# EAGLE library part XR-88C684J68 (library exar)
QUAD UART
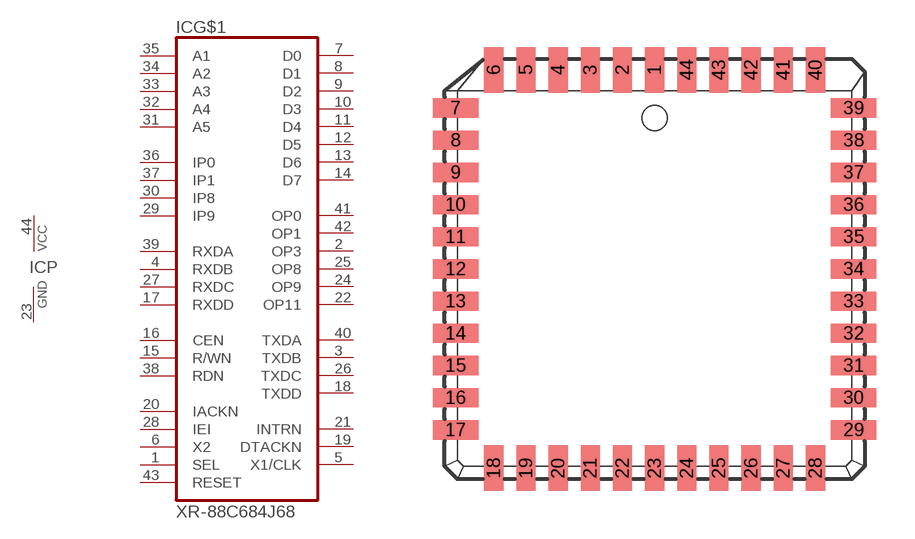
[diagram p81: symbol with the pads of PLCC44; footprint PLCC44]

Designator prefix IC; gates G$1=C684J68 P=PWRN

## XR-88C684J68 (OC_FARNELL: unknown; OC_NEWARK: unknown)  [PLCC44]
1  G$1:SEL  in
2  G$1:OP3  out
3  G$1:TXDB  out
4  G$1:RXDB  in
5  G$1:X1/CLK  out
6  G$1:X2  in
7  G$1:D0
8  G$1:D1
9  G$1:D2
10  G$1:D3
11  G$1:D4
12  G$1:D5
13  G$1:D6
14  G$1:D7
15  G$1:R/WN  in
16  G$1:CEN  in
17  G$1:RXDD  in
18  G$1:TXDD  out
19  G$1:DTACKN  out
20  G$1:IACKN  in
21  G$1:INTRN  out
22  G$1:OP11  out
23  P:GND  pwr
24  G$1:OP9  out
25  G$1:OP8  out
26  G$1:TXDC  out
27  G$1:RXDC  in
28  G$1:IEI  in
29  G$1:IP9  in
30  G$1:IP8  in
31  G$1:A5  in
32  G$1:A4  in
33  G$1:A3  in
34  G$1:A2  in
35  G$1:A1  in
36  G$1:IP0  in
37  G$1:IP1  in
38  G$1:RDN  in
39  G$1:RXDA  in
40  G$1:TXDA  out
41  G$1:OP0  out
42  G$1:OP1  out
43  G$1:RESET  in
44  P:VCC  pwr

## Footprint PLCC44 (pad centres in mm)
Plastic Leaded Chip Carrier
smd 0.76 x 1.8: 1 0,7.86; 2 -1.27,7.86; 3 -2.54,7.86; 4 -3.81,7.86; 5 -5.08,7.86; 6 -6.35,7.86; 18 -6.35,-7.86; 19 -5.08,-7.86; 20 -3.81,-7.86; 21 -2.54,-7.86; 22 -1.27,-7.86; 23 0,-7.86; 24 1.27,-7.86; 25 2.54,-7.86; 26 3.81,-7.86; 27 5.08,-7.86; 28 6.35,-7.86; 40 6.35,7.86; 41 5.08,7.86; 42 3.81,7.86; 43 2.54,7.86; 44 1.27,7.86
smd 1.8 x 0.76: 7 -7.86,6.35; 8 -7.86,5.08; 9 -7.86,3.81; 10 -7.86,2.54; 11 -7.86,1.27; 12 -7.86,0; 13 -7.86,-1.27; 14 -7.86,-2.54; 15 -7.86,-3.81; 16 -7.86,-5.08; 17 -7.86,-6.35; 29 7.86,-6.35; 30 7.86,-5.08; 31 7.86,-3.81; 32 7.86,-2.54; 33 7.86,-1.27; 34 7.86,0; 35 7.86,1.27; 36 7.86,2.54; 37 7.86,3.81; 38 7.86,5.08; 39 7.86,6.35